# Altium footprint library pedals-jacks.PCBLIB: 19 footprints (part 2 of 2)
Each footprint in its own frame and in the unit in brackets; x right, y up, seen from the top. Pads: shape width x height; smd on the part's side, far side on the other; paste and mask are expansions set on the pad; w line width, h text height; cw(c..) or ccw(c..) is an arc to the next point about the centre after c.
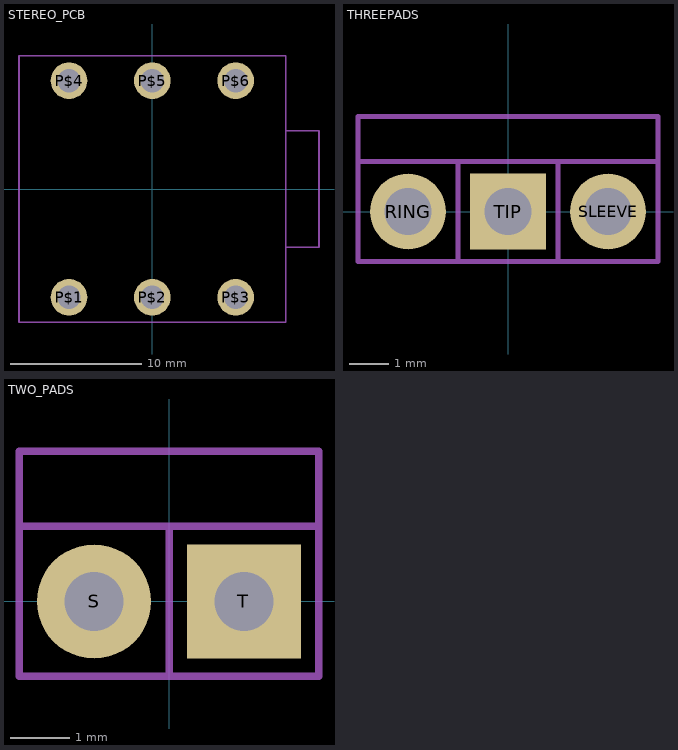
[diagram p1: the footprints below, top view; thin cyan lines are the x and y axes]

## STEREO_PCB [mil]
pads (6):
  round 110 hole 70: P$1(-250,-325) P$2(0,-325) P$3(250,-325) P$4(-250,325) P$5(0,325) P$6(250,325)
Mechanical 2:
  lines w5: 400,-175 400,175 ; 400,-175 400,-400 -400,-400 -400,-225 -400,-125 -400,125 -400,225 -400,400 400,400 400,175 ; 400,-175 500,-175 500,175 400,175

## THREEPADS [mil]
pads (3):
  round 76 hole 47.24: RING(-100,0) SLEEVE(100,0)
  rect 76x76 hole 47.24: TIP(0,0)
Mechanical 2:
  lines w5: -150,50 -50,50 ; -150,50 -150,-50 -50,-50 ; -150,50 -150,95 150,95 150,50 ; -50,-50 50,-50 ; -50,-50 -50,50 ; -50,50 50,50 ; 50,-50 150,-50 150,50 ; 50,-50 50,50 ; 50,50 150,50
Mechanical 3:
  lines w5: -150,50 -50,50 ; -150,50 -150,-50 -50,-50 ; -150,50 -150,95 150,95 150,50 ; -50,-50 50,-50 ; -50,-50 -50,50 ; -50,50 50,50 ; 50,-50 150,-50 150,50 ; 50,-50 50,50 ; 50,50 150,50

## TWO_PADS [mil]
pads (2):
  round 76 hole 39.37: S(-50,0)
  rect 76x76 hole 39.37: T(50,0)
Mechanical 2:
  lines w5: -100,50 -60,50 0,50 ; -100,50 -100,-50 0,-50 ; -100,50 -100,100 -60,100 60,100 100,100 100,50 ; 0,-50 0,50 ; 0,-50 100,-50 100,50 ; 0,50 60,50 100,50
Mechanical 3:
  lines w5: -100,50 -60,50 0,50 ; -100,50 -100,-50 0,-50 ; -100,50 -100,100 -60,100 60,100 100,100 100,50 ; 0,-50 100,-50 100,50 ; 0,-50 0,50 ; 0,50 60,50 100,50